# EAGLE library part PCM3168A_PAP_64 (library Texas Instruments)
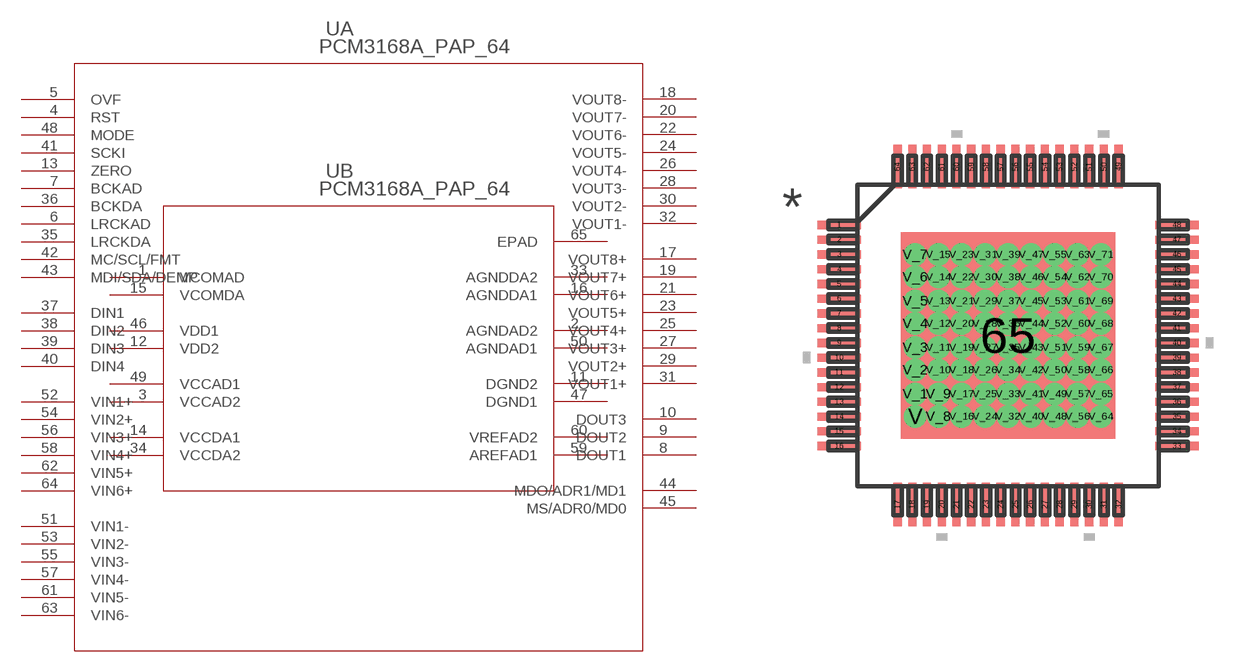
[diagram p11: symbol with the pads of PAP64_7X7P26; footprint PAP64_7X7P26]

Designator prefix U; gates A=PCM3168A_PAP_64_1 B=PCM3168A_PAP_64

## PCM3168A_PAP_64 (MANUFACTURER_PART_NUMBER: pcm3168a_pap_64; VENDOR: Texas Instruments)  [PAP64_7X7P26]
1  B:VCOMAD  pas
2  B:AGNDAD2  pas
3  B:VCCAD2  pas
4  A:RST  in
5  A:OVF  out
6  A:LRCKAD
7  A:BCKAD
8  A:DOUT1  out
9  A:DOUT2  out
10  A:DOUT3  pas
11  B:DGND2  pas
12  B:VDD2  pas
13  A:ZERO  pas
14  B:VCCDA1  pas
15  B:VCOMDA  pas
16  B:AGNDDA1  pas
17  A:VOUT8+  pas
18  A:VOUT8-  pas
19  A:VOUT7+  pas
20  A:VOUT7-  pas
21  A:VOUT6+  pas
22  A:VOUT6-  pas
23  A:VOUT5+  pas
24  A:VOUT5-  pas
25  A:VOUT4+  pas
26  A:VOUT4-  pas
27  A:VOUT3+  pas
28  A:VOUT3-  pas
29  A:VOUT2+  pas
30  A:VOUT2-  pas
31  A:VOUT1+  pas
32  A:VOUT1-  pas
33  B:AGNDDA2  pas
34  B:VCCDA2  pas
35  A:LRCKDA  pas
36  A:BCKDA  pas
37  A:DIN1  pas
38  A:DIN2  pas
39  A:DIN3  pas
40  A:DIN4  pas
41  A:SCKI  pas
42  A:MC/SCL/FMT  pas
43  A:MDI/SDA/DEMP  pas
44  A:MDO/ADR1/MD1  pas
45  A:MS/ADR0/MD0  pas
46  B:VDD1  pas
47  B:DGND1  pas
48  A:MODE  pas
49  B:VCCAD1  pas
50  B:AGNDAD1  pas
51  A:VIN1-  pas
52  A:VIN1+  pas
53  A:VIN2-  pas
54  A:VIN2+  pas
55  A:VIN3-  pas
56  A:VIN3+  pas
57  A:VIN4-  pas
58  A:VIN4+  pas
59  B:AREFAD1  pas
60  B:VREFAD2  pas
61  A:VIN5-  pas
62  A:VIN5+  pas
63  A:VIN6-  pas
64  A:VIN6+  pas
65  B:EPAD  pas

## Footprint PAP64_7X7P26 (pad centres in mm)
smd 1.473 x 0.279: 1 -5.725,3.75; 2 -5.725,3.25; 3 -5.725,2.75; 4 -5.725,2.25; 5 -5.725,1.75; 6 -5.725,1.25; 7 -5.725,0.75; 8 -5.725,0.25; 9 -5.725,-0.25; 10 -5.725,-0.75; 11 -5.725,-1.25; 12 -5.725,-1.75; 13 -5.725,-2.25; 14 -5.725,-2.75; 15 -5.725,-3.25; 16 -5.725,-3.75; 33 5.725,-3.75; 34 5.725,-3.25; 35 5.725,-2.75; 36 5.725,-2.25; 37 5.725,-1.75; 38 5.725,-1.25; 39 5.725,-0.75; 40 5.725,-0.25; 41 5.725,0.25; 42 5.725,0.75; 43 5.725,1.25; 44 5.725,1.75; 45 5.725,2.25; 46 5.725,2.75; 47 5.725,3.25; 48 5.725,3.75
smd 0.279 x 1.473: 17 -3.75,-5.725; 18 -3.25,-5.725; 19 -2.75,-5.725; 20 -2.25,-5.725; 21 -1.75,-5.725; 22 -1.25,-5.725; 23 -0.75,-5.725; 24 -0.25,-5.725; 25 0.25,-5.725; 26 0.75,-5.725; 27 1.25,-5.725; 28 1.75,-5.725; 29 2.25,-5.725; 30 2.75,-5.725; 31 3.25,-5.725; 32 3.75,-5.725; 49 3.75,5.725; 50 3.25,5.725; 51 2.75,5.725; 52 2.25,5.725; 53 1.75,5.725; 54 1.25,5.725; 55 0.75,5.725; 56 0.25,5.725; 57 -0.25,5.725; 58 -0.75,5.725; 59 -1.25,5.725; 60 -1.75,5.725; 61 -2.25,5.725; 62 -2.75,5.725; 63 -3.25,5.725; 64 -3.75,5.725
smd 7.264 x 7.01: 65 0,0
drill 0.254: V -3.15,-2.743; V_1 -3.15,-1.981; V_2 -3.15,-1.168; V_3 -3.15,-0.406; V_4 -3.15,0.406; V_5 -3.15,1.168; V_6 -3.15,1.981; V_7 -3.15,2.743; V_8 -2.362,-2.743; V_9 -2.362,-1.981; V_10 -2.362,-1.168; V_11 -2.362,-0.406; V_12 -2.362,0.406; V_13 -2.362,1.168; V_14 -2.362,1.981; V_15 -2.362,2.743; V_16 -1.575,-2.743; V_17 -1.575,-1.981; V_18 -1.575,-1.168; V_19 -1.575,-0.406; V_20 -1.575,0.406; V_21 -1.575,1.168; V_22 -1.575,1.981; V_23 -1.575,2.743; V_24 -0.787,-2.743; V_25 -0.787,-1.981; V_26 -0.787,-1.168; V_27 -0.787,-0.406; V_28 -0.787,0.406; V_29 -0.787,1.168; V_30 -0.787,1.981; V_31 -0.787,2.743; V_32 0,-2.743; V_33 0,-1.981; V_34 0,-1.168; V_35 0,-0.406; V_36 0,0.406; V_37 0,1.168; V_38 0,1.981; V_39 0,2.743; V_40 0.787,-2.743; V_41 0.787,-1.981; V_42 0.787,-1.168; V_43 0.787,-0.406; V_44 0.787,0.406; V_45 0.787,1.168; V_46 0.787,1.981; V_47 0.787,2.743; V_48 1.575,-2.743; V_49 1.575,-1.981; V_50 1.575,-1.168; V_51 1.575,-0.406; V_52 1.575,0.406; V_53 1.575,1.168; V_54 1.575,1.981; V_55 1.575,2.743; V_56 2.362,-2.743; V_57 2.362,-1.981; V_58 2.362,-1.168; V_59 2.362,-0.406; V_60 2.362,0.406; V_61 2.362,1.168; V_62 2.362,1.981; V_63 2.362,2.743; V_64 3.15,-2.743; V_65 3.15,-1.981; V_66 3.15,-1.168; V_67 3.15,-0.406; V_68 3.15,0.406; V_69 3.15,1.168; V_70 3.15,1.981; V_71 3.15,2.743